# Altium footprint library Tag102 Rev20.PcbLib: 19 footprints (part 1 of 2)
Each footprint in its own frame and in the unit in brackets; x right, y up, seen from the top. Pads: shape width x height; smd on the part's side, far side on the other; paste and mask are expansions set on the pad; w line width, h text height; cw(c..) or ccw(c..) is an arc to the next point about the centre after c.
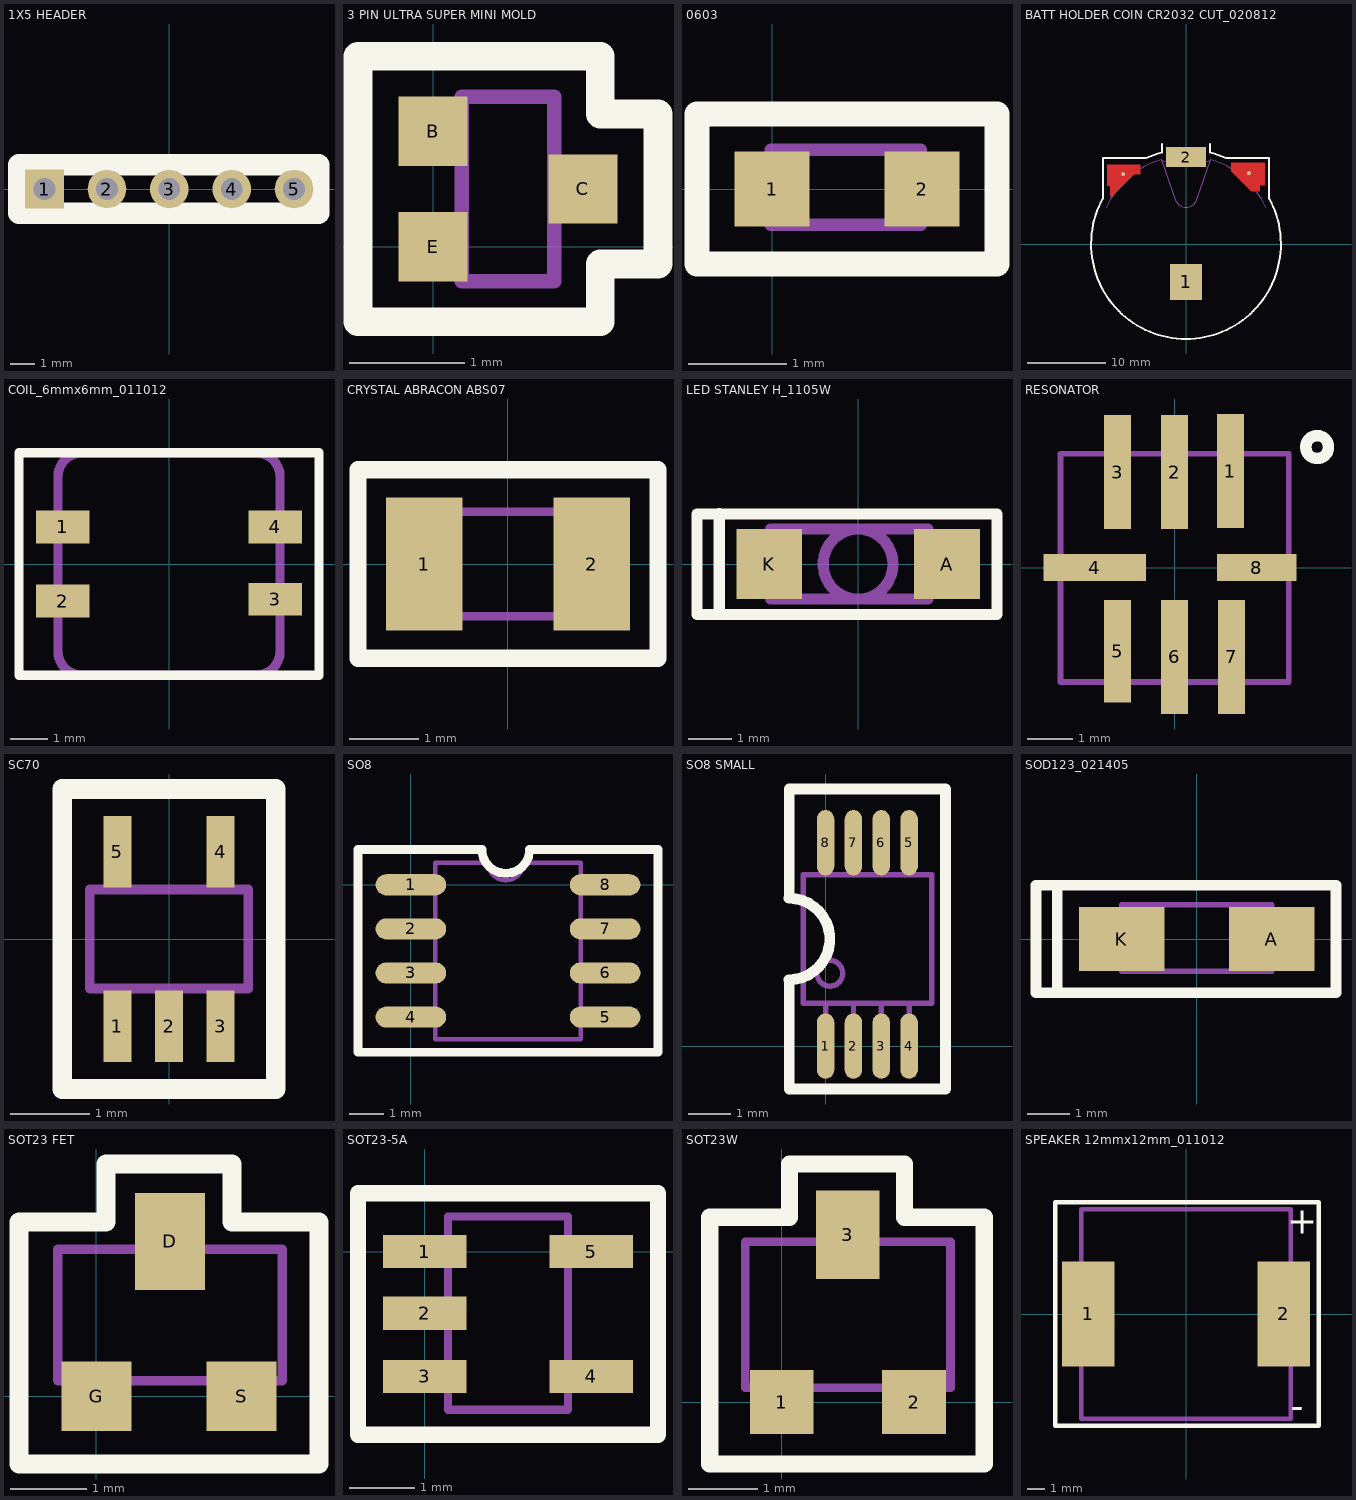
[diagram p0: the footprints below, top view; thin cyan lines are the x and y axes]

## 1X5 HEADER [mil]
pads (5):
  rect 62x62 hole 35: 1(-200,0)
  round 62 hole 35: 2(-100,0) 3(0,0) 4(100,0) 5(200,0)
Top Overlay:
  lines w35: -241,-39 -241,39 239,39 239,-39 -241,-39
Mechanical 1:
  lines w4.92: -240,-40 240,-40 240,40 -240,40 -240,-40
Mechanical 8:
  text ".Designator" at 12.5,-48 h19.68

## 3 PIN ULTRA SUPER MINI MOLD [mm]
pads (3):
  rect 0.6x0.6 smd: B(0,1) C(1.3,0.5) E(0,0)
Top Overlay:
  lines w0.25: -0.65,-0.65 1.45,-0.65 1.45,-0.15 1.95,-0.15 1.95,1.15 1.45,1.15 1.45,1.65 -0.65,1.65 -0.65,1.6 -0.65,-0.65
Mechanical 1:
  lines w0.125: 0.25,-0.15 -0.15,-0.15 -0.15,0.15 0.25,0.15 ; 0.25,0.85 -0.15,0.85 -0.15,1.15 0.25,1.15 ; 1.05,0.35 1.45,0.35 1.45,0.65 1.05,0.65 ; 0.25,-0.3 0.25,1.3 1.05,1.3 1.05,-0.3 0.25,-0.3
Mechanical 8:
  text ".Designator" at -0.33,0.178 h0.5
Mechanical 9:
  text ".Comment" at -0.618,-0.99 h0.25

## 0603 [mil]
pads (2):
  rect 30x30 smd: 1(0,0) 2(60,0)
Top Overlay:
  lines w10: -30,-30 90,-30 90,30 -30,30 -30,0 -30,-30
Mechanical 1:
  lines w5: -0.53,-14.25 -0.53,15.75 59.47,15.75 59.47,-14.25 -0.53,-14.25

## BATT HOLDER COIN CR2032 CUT_020812 [mil]
pads (4):
  rect 160x180 smd: 1(0,-188.88)
  round 20 smd: 2(-315,350) 2(315,355)
  rect 200x100 smd: 2(0,435)
Top Layer:
  region: -394,397 -229,397 -229,350 -260,350 -370,240 -378,240 -378,291 -394,291
  region: 395,407 395,294 368,294 368,265 327,265 226,366 226,407
Top Overlay:
  lines w9.84: -416.04,229.2 -416.04,430 ; -416.04,430.69 -200.32,430.69 ; -120.51,459.46 -120.51,502.5 ; 120.51,459.46 120.51,502.5 ; 200.32,430.69 416.04,430.69 ; 416.04,229.2 416.04,430
  lines w10: -416.05,229.2 ccw(c0,0) 0,-475 ccw(c0,0) 416.05,229.2 ; -200.32,430.69 cw(c0,0) -120.51,459.46 ; 120.51,459.46 cw(c0,0) 200.32,430.69
Top Paste:
  region: 395,407 395,294 368,294 368,265 327,265 226,366 226,407
  region: -394,397 -229,397 -229,350 -260,350 -370,240 -378,240 -378,291 -394,291
Top Solder:
  region: 395,407 395,294 368,294 368,265 327,265 226,366 226,407
  region: -394,397 -229,397 -229,350 -260,350 -370,240 -378,240 -378,291 -394,291
Mechanical 1:
  lines w4.92: -400.02,185.01 cw(c0,0) -125.03,422.62 ; -335,285 -365,285 -365,385 -315,385 -265,385 -265,352.5 ; -75,405 -75,457.5 0,457.5 75,457.5 75,405 ; 265,352.5 265,385 315,385 365,385 365,285 335,285 ; 400.02,185.01 ccw(c0,0) 125.03,422.62 ; -125.04,422.62 ccw(c-0.39,711.91) 0,396.91 ccw(c0.39,711.91) 125.03,422.62 ; -125.03,422.62 -50.16,214.91 ccw(c0,242.01) 0,185 ccw(c0,242.01) 50.16,214.91 125.03,422.62
Mechanical 8:
  text ".Designator" at -161,148 h19.68
Mechanical 9:
  text ".Comment" at -94,471 h9.84

## COIL_6mmx6mm_011012 [mil] "SMT"
height 7086.61
pads (4):
  rect 57x35 smd: 1(-113,39.5) 2(-113,-39.5) 3(113,-37.5) 4(113,39.5)
Top Overlay:
  lines w10: -159.45,-118.11 -159.45,118.11 159.45,118.11 159.45,-118.11 -159.45,-118.11
Mechanical 1:
  lines w10: -118,-93 ccw(c-93,-93) -93,-118 93,-118 ccw(c93,-93) 118,-93 118,93 ccw(c93,93) 93,118 -93,118 ccw(c-93,93) -118,93 -118,-93
Mechanical 8:
  text ".Designator" at -62.99,-17.72 h40
Mechanical 9:
  text ".Comment" at -177.17,-173.23 h9.84

## CRYSTAL ABRACON ABS07 [mm]
pads (2):
  rect 1.1x1.9 smd: 1(-1.2,0) 2(1.2,0)
Top Overlay:
  lines w0.25: -2.15,-1.35 -2.15,0 -2.15,1.35 0,1.35 2.15,1.35 2.15,0 2.15,-1.35 0,-1.35 -2.15,-1.35
Mechanical 1:
  lines w0.125: -1.6,-0.75 -1.6,0 -1.6,0.75 0,0.75 1.6,0.75 1.6,0 1.6,-0.75 0,-0.75 -1.6,-0.75
Mechanical 8:
  text ".Designator" at 0.33,0.381 h0.5
Mechanical 9:
  text ".Comment" at 1.93,1.422 h0.25

## LED STANLEY H_1105W [mm]
pads (2):
  rect 1.5x1.6 smd: A(2.032,0) K(-2.032,0)
Top Overlay:
  lines w0.254: -3.175,-1.143 -3.175,1.157 ; -3.683,-1.15 -3.683,1.15 -3.35,1.15 -2.9,1.15 0,1.15 2.9,1.15 3.175,1.15 3.175,-1.15 2.9,-1.15 0,-1.15 -2.9,-1.15 -3.35,-1.15 -3.683,-1.15
Mechanical 1:
  circle w0.254: c0,0 r0.8
  lines w0.254: 0,0.8 1.6,0.8 ; -1.6,-0.8 -2,-0.8 -2,0.8 -1.6,0.8 ; -1.6,-0.8 -1.6,0.8 ; -1.6,-0.8 1.6,-0.8 1.6,0.8 ; -1.6,0.8 1.6,0.8
Mechanical 8:
  text ".Designator" at 1.956,0.279 h0.5
Mechanical 9:
  text ".Comment" at -0.203,0.254 h0.25

## RESONATOR [mm]
pads (8):
  rect 0.6x2.54 smd: 1(1.245,2.159) 2(0,2.134) 3(-1.27,2.134) 6(0,-1.983) 7(1.27,-1.983)
  rect 2.286x0.6 smd: 4(-1.776,0.008)
  rect 0.6x2.286 smd: 5(-1.27,-1.856)
  rect 1.778x0.6 smd: 8(1.831,0.008)
Top Overlay:
  circle w0.254: c3.175,2.692 r0.254
Mechanical 1:
  lines w0.125: -2.54,-2.54 2.54,-2.54 2.54,0 2.54,2.54 -2.54,2.54 -2.54,-2.54
Mechanical 8:
  text ".Designator" at -1.778,1.651 h0.5
Mechanical 9:
  text ".Comment" at -1.956,-0.229 h0.25

## SC70 [mm]
pads (5):
  rect 0.35x0.9 smd mask+0.051: 1(-0.65,-1.1) 2(0,-1.1) 3(0.65,-1.1) 4(0.65,1.1) 5(-0.65,1.1)
Top Overlay:
  lines w0.25: -1.346,-1.892 -1.346,0 -1.346,1.892 0,1.892 1.346,1.892 1.346,0 1.346,-1.892 0,-1.892 -1.346,-1.892
Mechanical 1:
  lines w0.125: -0.65,-1.1 -0.65,-0.625 ; -0.65,0.625 -0.65,1.1 ; 0,-1.1 0,-0.625 ; 0,0.625 -1,0.625 ; 0.65,-1.1 0.65,-0.625 ; 0.65,0.625 0.65,1.1 ; 1,0 1,-0.625 ; -1,0.625 1,0.625 1,-0.625 ; -1,0.625 -1,-0.625 1,-0.625
Mechanical 8:
  text ".Designator" at 0.33,0.305 h0.5
Mechanical 9:
  text ".Comment" at 0.813,-1.346 h0.25

## SO8 [mil]
pads (8):
  oval 80x24 smd: 1(0,0) 2(0,-50) 3(0,-100) 4(0,-150) 5(220,-150) 6(220,-100) 7(220,-50) 8(220,0)
Top Overlay:
  lines w9.84: 80.46,40 -60,40 -60,-190 280,-190 280,40 134.54,40
  lines w10: 80.46,40 ccw(c107.5,40) 134.54,40
Mechanical 1:
  lines w4.92: 27.5,-155 0,-155 0,-145 27.5,-145 ; 27.5,-105 0,-105 0,-95 27.5,-95 ; 27.5,-55 0,-55 0,-45 27.5,-45 ; 27.5,-5 0,-5 0,5 27.5,5 ; 192.5,-155 220,-155 220,-145 192.5,-145 ; 192.5,-105 220,-105 220,-95 192.5,-95 ; 192.5,-55 220,-55 220,-45 192.5,-45 ; 192.5,-5 220,-5 220,5 192.5,5 ; 27.5,-175 192.5,-175 192.5,25 127.5,25 cw(c107.5,25) 87.5,25 27.5,25 27.5,-175
Mechanical 8:
  text ".Designator" at 151,1 h19.68
Mechanical 9:
  text ".Comment" at 99,-30 h9.84

## SO8 SMALL [mil]
pads (8):
  oval 16x60 smd mask+2: 1(0,0) 2(25.59,0) 3(51.18,0) 4(76.77,0) 5(76.77,186.85) 6(51.18,186.85) 7(25.59,186.85) 8(0,186.85)
Top Overlay:
  lines w9.84: -33.46,61.02 -33.46,-39.37 1.97,-39.37 110.24,-39.37 110.24,153.54 110.24,236.22 74.8,236.22 -33.46,236.22 -33.46,135.83
  lines w10: -33.46,61.02 ccw(c-33.46,98.43) -33.46,135.83
Mechanical 1:
  circle w4.92: c3.94,66.93 r11.81
  lines w4.92: 0,0 0,39.37 ; 0,157.48 0,196.85 ; 25.59,0 25.59,39.37 ; 25.59,157.48 25.59,196.85 ; 51.18,0 51.18,39.37 ; 51.18,157.48 51.18,196.85 ; 76.77,0 76.77,39.37 ; 76.77,157.48 76.77,196.85 ; 97.44,98.43 97.44,157.48 ; 97.44,157.48 -20.67,157.48 -20.67,39.37 97.44,39.37 97.44,157.48
Mechanical 8:
  text ".Designator" at 53,136 h19.68
Mechanical 9:
  text ".Comment" at 81,119 h9.84

## SOD123_021405 [mil]
pads (2):
  rect 80x60 smd: A(70,0) K(-70,0)
Top Overlay:
  lines w9.84: -130,-50 -130,50 ; -150,-50 -150,50 40,50 130,50 130,-50 40,-50 -150,-50
Mechanical 1:
  lines w4.92: -40,-30 -40,32 ; -70,-30 -70,32 70,32 70,-30 -70,-30
Mechanical 8:
  text ".Designator" at 21,-39 h19.68
Mechanical 9:
  text ".Comment" at 49,57 h9.84

## SOT23 FET [mil]
pads (3):
  rect 36x50 smd: D(38,80)
  rect 36x36 smd: G(0,0) S(75,0)
Top Overlay:
  lines w9.84: -40,-35 115,-35 115,90 70,90 70,120 23,120 5,120 5,90 -40,90 -40,-35
Mechanical 1:
  lines w4.92: -10,8 -10,-8 10,-8 10,8 ; 30,76 30,94 46,94 46,76 ; 66,8 66,-8 84,-8 84,8 ; -20,8 96,8 96,76 -20,76 -20,8
Mechanical 8:
  text ".Designator" at 54,-7 h19.68
Mechanical 9:
  text ".Comment" at 86,49 h9.84

## SOT23-5A [mil]
pads (5):
  rect 50x20 smd: 1(0,0) 2(0,-37) 3(0,-75) 4(100,-75) 5(100,0)
Top Overlay:
  lines w9.84: -40,-110 -40,-75 -40,35 140,35 140,-110 -40,-110
Mechanical 1:
  lines w4.92: 14,-79 -8,-79 -8,-71 12,-71 14,-69 ; 14,-41 -8,-41 -8,-33 14,-33 ; 14,-3 -8,-3 -8,5 14,5 ; 86,-79 108,-79 108,-71 86,-71 ; 86,-3 108,-3 108,5 86,5 ; 14,-95 86,-95 86,21 14,21 14,-95
Mechanical 8:
  text ".Designator" at 97,-21 h19.68
Mechanical 9:
  text ".Comment" at 45,-11 h9.84

## SOT23W [mil]
pads (3):
  rect 36x36 smd: 1(0,0) 2(74.8,0)
  rect 36x50 smd: 3(37.4,94.49)
Top Overlay:
  lines w9.84: -40.6,-35 114.4,-35 114.4,104.49 69.4,104.49 69.4,134.49 22.4,134.49 4.4,134.49 4.4,104.49 -40.6,104.49 -40.6,-35
Mechanical 1:
  lines w4.92: -10.6,8 -10.6,-8 9.4,-8 9.4,8 ; 29.4,90.49 29.4,108.49 45.4,108.49 45.4,90.49 ; 65.4,8 65.4,-8 83.4,-8 83.4,8 ; -20.6,8 95.4,8 95.4,90.49 -20.6,90.49 -20.6,8
Mechanical 8:
  text ".Designator" at 78,37 h19.68
Mechanical 9:
  text ".Comment" at 63,50 h9.84

## SPEAKER 12mmx12mm_011012 [mm] "SMT"
height 3.14
pads (2):
  rect 3x6 smd: 1(-5.6,0) 2(5.6,0)
Top Overlay:
  lines w0.254: -7.5,-6.4 0,-6.4 7.6,-6.4 7.6,6.4 0,6.4 ; -7.5,6.4 0,6.4 ; -7.5,6.4 -7.5,-6.35 -7.5,6.4 ; -7.5,6.4 0,6.4 ; -7.5,6.4 0,6.4
  text "+" at 5.8,4.6 h1.5
  text "-" at 6,-6 h1.5
Mechanical 1:
  lines w0.254: -6,-1 -6.65,-1 -6.65,1 -6,1 ; 0,6 -6,6 ; 6,1 6.65,1 6.65,-1 ; -6,6 6,6 6,-6 -6,-6 -6,6 ; 6.65,-1 6,-1 6.65,-1
  text "+" at 2.6,2.4 h1.5
  text "-" at 2.5,-3.7 h1.5
Mechanical 8:
  text ".Designator" at 3.665,-0.496 h0.5
Mechanical 9:
  text ".Comment" at 0.388,-1.487 h0.25